# EAGLE library part INA128UA (library INA128UA)
INSTRUMENTATION AMPLIFIER
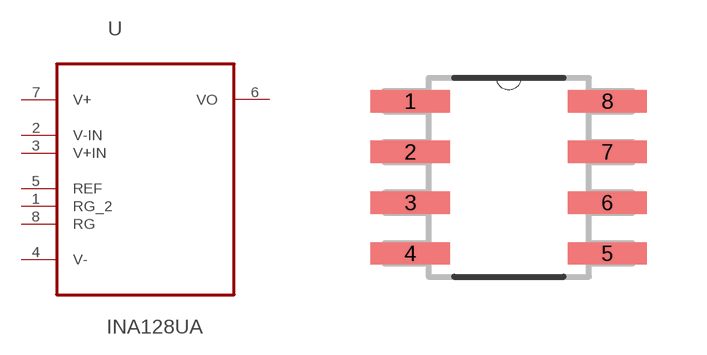
[diagram p0: symbol with the pads of SOIC127P600X175-8N; footprint SOIC127P600X175-8N]

Designator prefix U

## INA128UA (Availability: Unavailable; MF: Texas; MP: INA128UA; Package: SOIC-8 Burr Brown; Price: None)  [SOIC127P600X175-8N]
1  RG_2  in
2  V-IN  in
3  V+IN  in
4  V-  pwr
5  REF  in
6  VO  out
7  V+  pwr
8  RG  in

## Footprint SOIC127P600X175-8N (pad centres in mm)
smd 1.981 x 0.559: 1 -2.464,1.905; 2 -2.464,0.635; 3 -2.464,-0.635; 4 -2.464,-1.905; 5 2.464,-1.905; 6 2.464,-0.635; 7 2.464,0.635; 8 2.464,1.905